# EAGLE library part TXS0206-29 (library joule_shield)
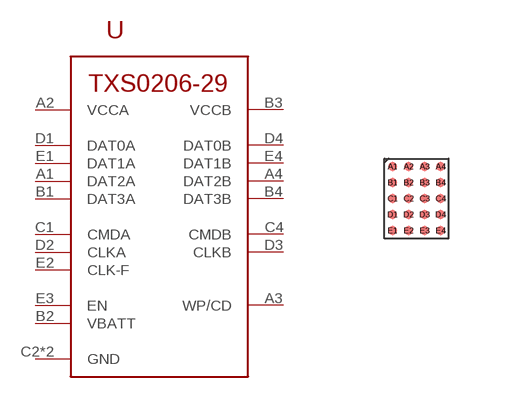
[diagram p11: symbol with the pads of DSBGA20; footprint DSBGA20]

Designator prefix -

## TXS0206-29  [DSBGA20]
A1  DAT2A
A2  VCCA
A3  WP/CD
A4  DAT2B
B1  DAT3A
B2  VBATT
B3  VCCB
B4  DAT3B
C1  CMDA
C2  GND
C3  GND
C4  CMDB
D1  DAT0A
D2  CLKA
D3  CLKB
D4  DAT0B
E1  DAT1A
E2  CLK-F
E3  EN
E4  DAT1B

## Footprint DSBGA20 (pad centres in mm)
smd 0.23 x 0.23: A1 -0.6,0.8; A2 -0.2,0.8; A3 0.2,0.8; A4 0.6,0.8; B1 -0.6,0.4; B2 -0.2,0.4; B3 0.2,0.4; B4 0.6,0.4; C1 -0.6,0; C2 -0.2,0; C3 0.2,0; C4 0.6,0; D1 -0.6,-0.4; D2 -0.2,-0.4; D3 0.2,-0.4; D4 0.6,-0.4; E1 -0.6,-0.8; E2 -0.2,-0.8; E3 0.2,-0.8; E4 0.6,-0.8